# EAGLE library part AD8317 (library drom)
Log Detector/Controller
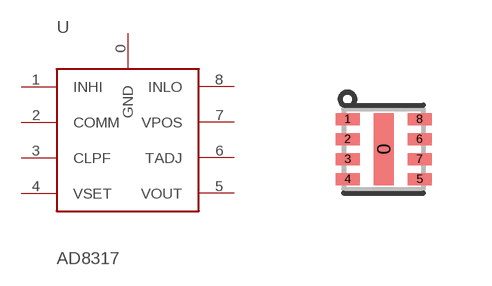
[diagram p2: symbol with the pads of DFN-8-EXTRA; footprint DFN-8-EXTRA]

Designator prefix U

## AD8317L  [DFN-8-EXTRA]
0  GND
1  INHI
2  COMM
3  CLPF
4  VSET
5  VOUT
6  TADJ
7  VPOS
8  INLO

## Footprint DFN-8-EXTRA (pad centres in mm)
8-pin DFN, 2mm x 3mm x 0.85mm
smd 0.5 x 1.8: 0 0,0
smd 0.6 x 0.3: 1 -0.9,0.75; 2 -0.9,0.25; 3 -0.9,-0.25; 4 -0.9,-0.75; 5 0.9,-0.75; 6 0.9,0.25; 7 0.9,-0.25; 8 0.9,0.75